# Altium footprint library YNPcbLib.PcbLib: 18 footprints (part 2 of 2)
Each footprint in its own frame and in the unit in brackets; x right, y up, seen from the top. Pads: shape width x height; smd on the part's side, far side on the other; paste and mask are expansions set on the pad; w line width, h text height; cw(c..) or ccw(c..) is an arc to the next point about the centre after c.
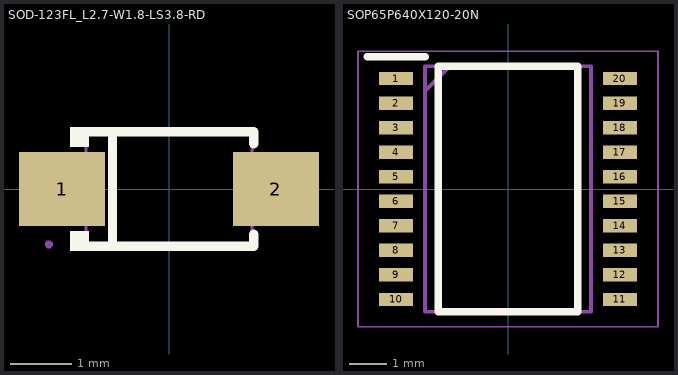
[diagram p1: the footprints below, top view; thin cyan lines are the x and y axes]

## SOD-123FL_L2.7-W1.8-LS3.8-RD [mm]
pads (2):
  rect 1.4x1.2 smd paste+0 mask+0.051: 1(-1.735,0) 2(1.735,0)
Top Overlay:
  region: -1.3,-1.002 -1.3,-0.682 -1.605,-0.682 -1.605,-1.002
  region: -1.3,1.002 -1.3,0.682 -1.605,0.682 -1.605,1.002
  lines w0.152: -1.376,-0.926 1.376,-0.926 1.376,-0.733 ; -1.376,0.926 1.376,0.926 1.376,0.733 ; -0.917,-0.876 -0.917,0.876
Mechanical 6:
  region: 1.747,-0.384 1.555,-0.384 1.555,0.384 1.747,0.384
  region: 2.035,0.096 2.035,-0.096 1.267,-0.096 1.267,0.096
  region: -2.032,0.127 -2.032,-0.065 -1.264,-0.065 -1.264,0.127
Mechanical 15:
  region: -1.95,0.475 -1.15,0.475 -1.15,-0.475 -1.95,-0.475
  region: 1.95,-0.475 1.15,-0.475 1.15,0.475 1.95,0.475
  region: -1.89,-0.9 -1.89,-0.875 -1.925,-0.84 -1.975,-0.84 -2.01,-0.875 -2.01,-0.9 -2.01,-0.925 -1.975,-0.96 -1.925,-0.96 -1.89,-0.925 -1.89,-0.9
  lines w0.051: -1.35,-0.9 1.35,-0.9 1.35,0.9 -1.35,0.9 -1.35,-0.9

## SOP65P640X120-20N [mm]
pads (20):
  rect 0.9x0.35 smd: 1(-2.962,2.925) 2(-2.962,2.275) 3(-2.962,1.625) 4(-2.962,0.975) 5(-2.962,0.325) 6(-2.962,-0.325) 7(-2.962,-0.975) 8(-2.962,-1.625) 9(-2.962,-2.275) 10(-2.962,-2.925) 11(2.962,-2.925) 12(2.962,-2.275) 13(2.962,-1.625) 14(2.962,-0.975) 15(2.962,-0.325) 16(2.962,0.325) 17(2.962,0.975) 18(2.962,1.625) 19(2.962,2.275) 20(2.962,2.925)
Top Overlay:
  lines w0.2: -3.725,3.5 -2.2,3.5 ; -1.85,-3.25 -1.85,3.25 1.85,3.25 1.85,-3.25 -1.85,-3.25
Mechanical 13:
  lines w0.1: -2.2,2.6 -1.55,3.25 ; -2.2,-3.25 -2.2,3.25 2.2,3.25 2.2,-3.25 -2.2,-3.25
Mechanical 15:
  lines w0.05: -3.975,-3.65 -3.975,3.65 3.975,3.65 3.975,-3.65 -3.975,-3.65
3D body "MM3474G05VBE.stp": height 1.2, standoff 0, extent -3.2,-3.25 3.2,3.25